# Altium footprint library 2020-07-05_03-20-08.PcbLib: 3 footprints
Each footprint in its own frame and in the unit in brackets; x right, y up, seen from the top. Pads: shape width x height; smd on the part's side, far side on the other; paste and mask are expansions set on the pad; w line width, h text height; cw(c..) or ccw(c..) is an arc to the next point about the centre after c.
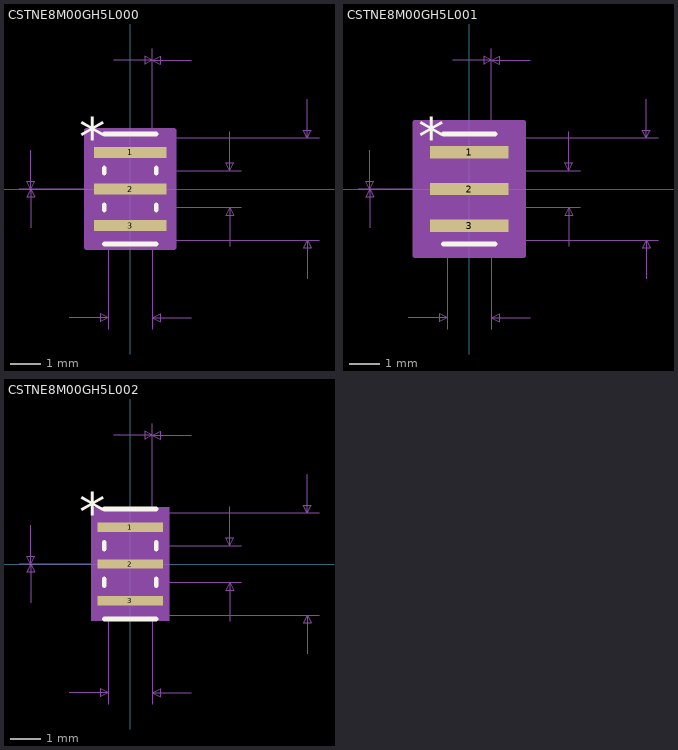
[diagram p0: the footprints below, top view; thin cyan lines are the x and y axes]

## CSTNE8M00GH5L000 [mil]
pads (3):
  rect 93x14 smd paste+0 mask+0: 1(0,47.24) 2(0,0) 3(0,-47.24)
Top Overlay:
  lines w6: -33.5,-71 33.5,-71 ; -33.5,-27.14 -33.5,-20.1 ; -33.5,20.1 -33.5,27.14 ; -33.5,71 33.5,71 ; 33.5,-27.14 33.5,-20.1 ; 33.5,20.1 33.5,27.14
  text "*" at -66,42.24 h50
Mechanical 5:
  region: 54,-73.5 -54,-73.5 -54,73.5 54,73.5
Mechanical 7:
  lines w1: -128.5,-50 -128.5,0 ; -128.5,50 -128.5,0 ; -78.5,-166 -28.5,-166 ; -28.5,-181 -28.5,23.62 ; -21.5,166 28.5,166 ; 28.5,-181 28.5,23.62 ; 28.5,-66 243.5,-66 ; 28.5,-23.62 143.5,-23.62 ; 28.5,66 243.5,66 ; 78.5,-166 28.5,-166 ; 78.5,166 28.5,166 ; 128.5,-73.62 128.5,-23.62 ; 128.5,73.62 128.5,23.62 ; 143.5,23.62 28.5,23.62 ; 228.5,-116 228.5,-66 ; 228.5,116 228.5,66 ; -128.5,0 -133.5,10 -123.5,10 -128.5,0 ; -128.5,0 -133.5,-10 -123.5,-10 -128.5,0 ; -28.5,-166 -38.5,-161 -38.5,-171 -28.5,-166 ; 28.5,-166 38.5,-161 38.5,-171 28.5,-166 ; 28.5,23.62 28.5,181 28.5,23.62 ; 28.5,166 18.5,171 18.5,161 28.5,166 ; 28.5,166 38.5,171 38.5,161 28.5,166 ; 128.5,-23.62 123.5,-33.62 133.5,-33.62 128.5,-23.62 ; 128.5,23.62 123.5,33.62 133.5,33.62 128.5,23.62 ; 228.5,-66 223.5,-76 233.5,-76 228.5,-66 ; 228.5,66 223.5,76 233.5,76 228.5,66 ; -143.5,0 -28.5,0 -143.5,0
  text "Default Padstyle: RX93Y14D0T" at -350,-316 h50
  text "Alt 1 Padstyle: OX60Y90D30P" at -337.5,-391 h50
  text "Alt 2 Padstyle: OX90Y60D30P" at -337.5,-466 h50
  text "0.057in/1.448mm" at -93.75,-211 h25
  text "0in/0mm" at -15.25,186 h25
  text "0.047in/1.2mm" at 148.5,-12.5 h25
  text "0.132in/3.353mm" at 248.5,-12.5 h25
  text "0in/0mm" at -236,-12.5 h25
Mechanical 13:
  lines w0: -28.5,-47.24 ccw(c-28.5,-47.24) -28.5,-47.24 ; -28.5,0 ccw(c-28.5,0) -28.5,0 ; -28.5,47.24 ccw(c-28.5,47.24) -28.5,47.24 ; 28.5,-47.24 ccw(c28.5,-47.24) 28.5,-47.24 ; 28.5,0 ccw(c28.5,0) 28.5,0 ; 28.5,47.24 ccw(c28.5,47.24) 28.5,47.24
  lines w1: -28.5,56 -18.5,66 ; -28.5,-66 -28.5,-47.24 -28.5,0 -28.5,47.24 -28.5,66 28.5,66 28.5,47.24 28.5,0 28.5,-47.24 28.5,-66 -28.5,-66
  text "*" at -21,16 h50
Mechanical 15:
  region: 56.5,-76 -56.5,-76 -56.5,76 56.5,76
  region: 28.5,-66 -28.5,-66 -28.5,66 28.5,66
  lines w6: -56.5,-76 -56.5,76 56.5,76 56.5,-76 -56.5,-76
3D body: height 10, standoff 0, extent 0,0 10,10

## CSTNE8M00GH5L001 [mil]
pads (3):
  rect 101x16 smd paste+0 mask+0: 1(0,47.24) 2(0,0) 3(0,-47.24)
Top Overlay:
  lines w6: -33.5,-71 33.5,-71 ; -33.5,71 33.5,71
  text "*" at -66,42.24 h50
Mechanical 5:
  region: 58,-73.5 -58,-73.5 -58,73.5 58,73.5
Mechanical 7:
  lines w1: -128.5,-50 -128.5,0 ; -128.5,50 -128.5,0 ; -78.5,-166 -28.5,-166 ; -28.5,-181 -28.5,23.62 ; -21.5,166 28.5,166 ; 28.5,-181 28.5,23.62 ; 28.5,-66 243.5,-66 ; 28.5,-23.62 143.5,-23.62 ; 28.5,66 243.5,66 ; 78.5,-166 28.5,-166 ; 78.5,166 28.5,166 ; 128.5,-73.62 128.5,-23.62 ; 128.5,73.62 128.5,23.62 ; 143.5,23.62 28.5,23.62 ; 228.5,-116 228.5,-66 ; 228.5,116 228.5,66 ; -128.5,0 -133.5,10 -123.5,10 -128.5,0 ; -128.5,0 -133.5,-10 -123.5,-10 -128.5,0 ; -28.5,-166 -38.5,-161 -38.5,-171 -28.5,-166 ; 28.5,-166 38.5,-161 38.5,-171 28.5,-166 ; 28.5,23.62 28.5,181 28.5,23.62 ; 28.5,166 18.5,171 18.5,161 28.5,166 ; 28.5,166 38.5,171 38.5,161 28.5,166 ; 128.5,-23.62 123.5,-33.62 133.5,-33.62 128.5,-23.62 ; 128.5,23.62 123.5,33.62 133.5,33.62 128.5,23.62 ; 228.5,-66 223.5,-76 233.5,-76 228.5,-66 ; 228.5,66 223.5,76 233.5,76 228.5,66 ; -143.5,0 -28.5,0 -143.5,0
  text "Default Padstyle: RX101Y16D0T" at -362.5,-316 h50
  text "Alt 1 Padstyle: OX60Y90D30P" at -337.5,-391 h50
  text "Alt 2 Padstyle: OX90Y60D30P" at -337.5,-466 h50
  text "0.057in/1.448mm" at -93.75,-211 h25
  text "0in/0mm" at -15.25,186 h25
  text "0.047in/1.2mm" at 148.5,-12.5 h25
  text "0.132in/3.353mm" at 248.5,-12.5 h25
  text "0in/0mm" at -236,-12.5 h25
Mechanical 13:
  lines w0: -28.5,-47.24 ccw(c-28.5,-47.24) -28.5,-47.24 ; -28.5,0 ccw(c-28.5,0) -28.5,0 ; -28.5,47.24 ccw(c-28.5,47.24) -28.5,47.24 ; 28.5,-47.24 ccw(c28.5,-47.24) 28.5,-47.24 ; 28.5,0 ccw(c28.5,0) 28.5,0 ; 28.5,47.24 ccw(c28.5,47.24) 28.5,47.24
  lines w1: -28.5,56 -18.5,66 ; -28.5,-66 -28.5,-47.24 -28.5,0 -28.5,47.24 -28.5,66 28.5,66 28.5,47.24 28.5,0 28.5,-47.24 28.5,-66 -28.5,-66
  text "*" at -21,16 h50
Mechanical 15:
  region: 70.5,-86 -70.5,-86 -70.5,86 70.5,86
  region: 28.5,-66 -28.5,-66 -28.5,66 28.5,66
  lines w6: -70.5,-86 -70.5,86 70.5,86 70.5,-86 -70.5,-86
3D body: height 10, standoff 0, extent 0,0 10,10

## CSTNE8M00GH5L002 [mil]
pads (3):
  rect 85x12 smd paste+0 mask+0: 1(0,47.24) 2(0,0) 3(0,-47.24)
Top Overlay:
  lines w6: -33.5,-71 33.5,-71 ; -33.5,-28.14 -33.5,-19.1 ; -33.5,19.1 -33.5,28.14 ; -33.5,71 33.5,71 ; 33.5,-28.14 33.5,-19.1 ; 33.5,19.1 33.5,28.14
  text "*" at -66,42.24 h50
Mechanical 5:
  region: 50,-73.5 -50,-73.5 -50,73.5 50,73.5
Mechanical 7:
  lines w1: -128.5,-50 -128.5,0 ; -128.5,50 -128.5,0 ; -78.5,-166 -28.5,-166 ; -28.5,-181 -28.5,23.62 ; -21.5,166 28.5,166 ; 28.5,-181 28.5,23.62 ; 28.5,-66 243.5,-66 ; 28.5,-23.62 143.5,-23.62 ; 28.5,66 243.5,66 ; 78.5,-166 28.5,-166 ; 78.5,166 28.5,166 ; 128.5,-73.62 128.5,-23.62 ; 128.5,73.62 128.5,23.62 ; 143.5,23.62 28.5,23.62 ; 228.5,-116 228.5,-66 ; 228.5,116 228.5,66 ; -128.5,0 -133.5,10 -123.5,10 -128.5,0 ; -128.5,0 -133.5,-10 -123.5,-10 -128.5,0 ; -28.5,-166 -38.5,-161 -38.5,-171 -28.5,-166 ; 28.5,-166 38.5,-161 38.5,-171 28.5,-166 ; 28.5,23.62 28.5,181 28.5,23.62 ; 28.5,166 18.5,171 18.5,161 28.5,166 ; 28.5,166 38.5,171 38.5,161 28.5,166 ; 128.5,-23.62 123.5,-33.62 133.5,-33.62 128.5,-23.62 ; 128.5,23.62 123.5,33.62 133.5,33.62 128.5,23.62 ; 228.5,-66 223.5,-76 233.5,-76 228.5,-66 ; 228.5,66 223.5,76 233.5,76 228.5,66 ; -143.5,0 -28.5,0 -143.5,0
  text "Default Padstyle: RX85Y12D0T" at -350,-316 h50
  text "Alt 1 Padstyle: OX60Y90D30P" at -337.5,-391 h50
  text "Alt 2 Padstyle: OX90Y60D30P" at -337.5,-466 h50
  text "0.057in/1.448mm" at -93.75,-211 h25
  text "0in/0mm" at -15.25,186 h25
  text "0.047in/1.2mm" at 148.5,-12.5 h25
  text "0.132in/3.353mm" at 248.5,-12.5 h25
  text "0in/0mm" at -236,-12.5 h25
Mechanical 13:
  lines w0: -28.5,-47.24 ccw(c-28.5,-47.24) -28.5,-47.24 ; -28.5,0 ccw(c-28.5,0) -28.5,0 ; -28.5,47.24 ccw(c-28.5,47.24) -28.5,47.24 ; 28.5,-47.24 ccw(c28.5,-47.24) 28.5,-47.24 ; 28.5,0 ccw(c28.5,0) 28.5,0 ; 28.5,47.24 ccw(c28.5,47.24) 28.5,47.24
  lines w1: -28.5,56 -18.5,66 ; -28.5,-66 -28.5,-47.24 -28.5,0 -28.5,47.24 -28.5,66 28.5,66 28.5,47.24 28.5,0 28.5,-47.24 28.5,-66 -28.5,-66
  text "*" at -21,16 h50
Mechanical 15:
  region: 46.5,-70 -46.5,-70 -46.5,70 46.5,70
  region: 28.5,-66 -28.5,-66 -28.5,66 28.5,66
  lines w6: -46.5,-70 -46.5,70 46.5,70 46.5,-70 -46.5,-70
3D body: height 10, standoff 0, extent 0,0 10,10